# Altium schematic symbol library BF5030W.Schlib: 1 symbol
Pins are listed as number, name and electrical type; pins without a type are passive.

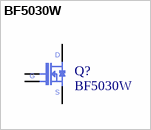
[diagram p0: symbol BF5030W]

## BF5030W
designator Q?
pins: 1 D, 2 S, 3 G1, 4 G2
text: G